# EAGLE library part AVRISP10 (library ads4)
10-pin dual-row connector for Atmel AVRISP programmer interface
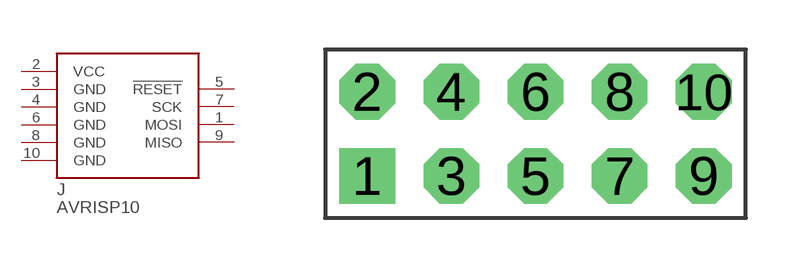
[diagram p47: symbol with the pads of CON10P2R; footprint CON10P2R]

Designator prefix J

## AVRISP10  [CON10P2R]
1  MOSI  out
2  VCC  pwr
3  GND  pwr
4  GND  pwr
5  !RESET  out
6  GND  pwr
7  SCK  out
8  GND  pwr
9  MISO  in
10  GND  pwr

## Footprint CON10P2R (pad centres in mm)
10-pin dual-row connector
drill 1.016 pad 1.676 square: 1 -5.08,-1.27
drill 1.016 pad 1.676 octagon: 2 -5.08,1.27; 3 -2.54,-1.27; 4 -2.54,1.27; 5 0,-1.27; 6 0,1.27; 7 2.54,-1.27; 8 2.54,1.27; 9 5.08,-1.27; 10 5.08,1.27